# Altium schematic symbol library DM9000E.SchLib: 1 symbol
Pins are listed as number, name and electrical type; pins without a type are passive.

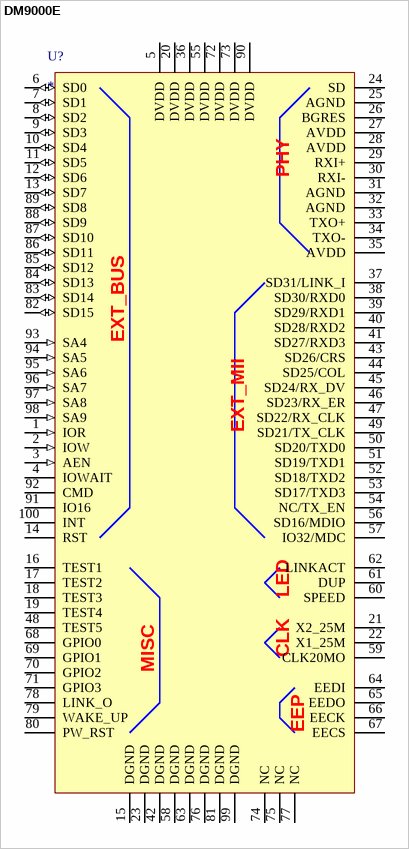
[diagram p0: symbol DM9000E]

## DM9000E
designator U?
ISA TO ETHERNET MAC CONTROLLER WITH INTEGRATED 10/100 PHY
pins: 1 IOR (in), 2 IOW (in), 3 AEN (in), 4 IOWAIT, 5 DVDD, 6 SD0 (io), 7 SD1 (io), 8 SD2 (io), 9 SD3 (io), 10 SD4 (io), 11 SD5 (io), 12 SD6 (io), 13 SD7 (io), 14 RST, 15 DGND, 16 TEST1, 17 TEST2, 18 TEST3, 19 TEST4, 20 DVDD, 21 X2_25M, 22 X1_25M, 23 DGND, 24 SD, 25 AGND, 26 BGRES, 27 AVDD, 28 AVDD, 29 RXI+, 30 RXI-, 31 AGND, 32 AGND, 33 TXO+, 34 TXO-, 35 AVDD, 36 DVDD, 37 SD31/LINK_I, 38 SD30/RXD0, 39 SD29/RXD1, 40 SD28/RXD2, 41 SD27/RXD3, 42 DGND, 43 SD26/CRS, 44 SD25/COL, 45 SD24/RX_DV, 46 SD23/RX_ER, 47 SD22/RX_CLK, 48 TEST5, 49 SD21/TX_CLK, 50 SD20/TXD0, 51 SD19/TXD1, 52 SD18/TXD2, 53 SD17/TXD3, 54 NC/TX_EN, 55 DVDD, 56 SD16/MDIO, 57 IO32/MDC, 58 DGND, 59 CLK20MO, 60 SPEED, 61 DUP, 62 LINKACT, 63 DGND, 64 EEDI, 65 EEDO, 66 EECK, 67 EECS, 68 GPIO0, 69 GPIO1, 70 GPIO2, 71 GPIO3, 72 DVDD, 73 DVDD, 74 NC, 75 NC, 76 DGND, 77 NC, 78 LINK_O, 79 WAKE_UP, 80 PW_RST, 81 DGND, 82 SD15 (io), 83 SD14 (io), 84 SD13 (io), 85 SD12 (io), 86 SD11 (io), 87 SD10 (io), 88 SD9 (io), 89 SD8 (io), 90 DVDD, 91 IO16, 92 CMD, 93 SA4 (in), 94 SA5 (in), 95 SA6 (in), 96 SA7 (in), 97 SA8 (in), 98 SA9 (in), 99 DGND, 100 INT
text: PHY; EXT_BUS; EXT_MII; LED; CLK; MISC; EEP